# Altium footprint library 16SOIC.PcbLib: 1 footprints
Each footprint in its own frame and in the unit in brackets; x right, y up, seen from the top. Pads: shape width x height; smd on the part's side, far side on the other; paste and mask are expansions set on the pad; w line width, h text height; cw(c..) or ccw(c..) is an arc to the next point about the centre after c.
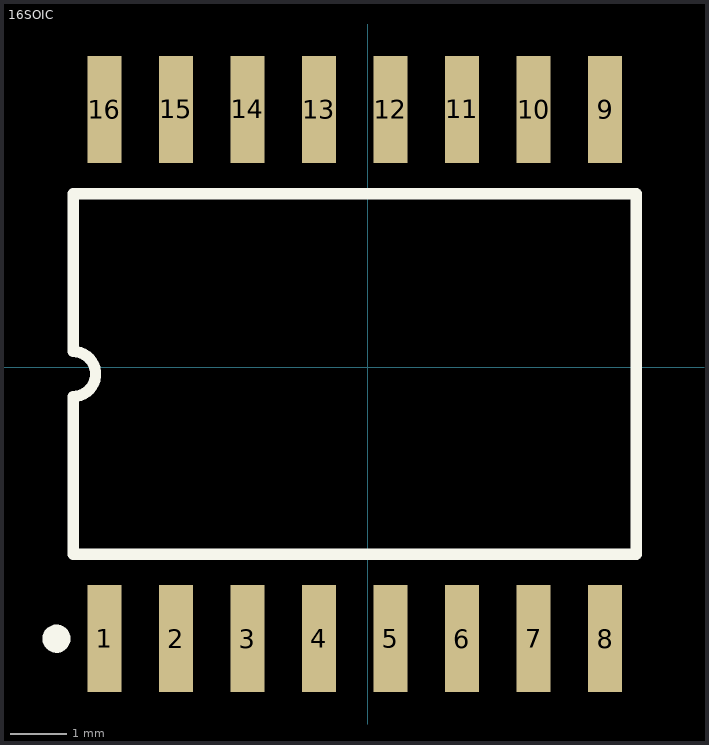
[diagram p0: the footprint, top view; thin cyan lines are the x and y axes]

## 16SOIC [mm]
pads (16):
  rect 0.6x1.9 smd: 1(-4.674,-4.822) 2(-3.404,-4.822) 3(-2.134,-4.822) 4(-0.864,-4.822) 5(0.406,-4.822) 6(1.676,-4.822) 7(2.946,-4.822) 8(4.216,-4.822) 9(4.216,4.577) 10(2.946,4.577) 11(1.676,4.577) 12(0.406,4.577) 13(-0.864,4.577) 14(-2.134,4.577) 15(-3.404,4.577) 16(-4.674,4.577)
Top Overlay:
  circle w0.25: c-5.524,-4.822 r0.125
  lines w0.2: -5.229,-3.323 4.771,-3.323 4.771,3.077 -5.229,3.077 -5.229,0.278 cw(c-5.229,-0.122) -5.229,-0.522 -5.229,-3.322